# EAGLE library part X__ISP_STECKER_KLEIN (library ++Bedrahtet)
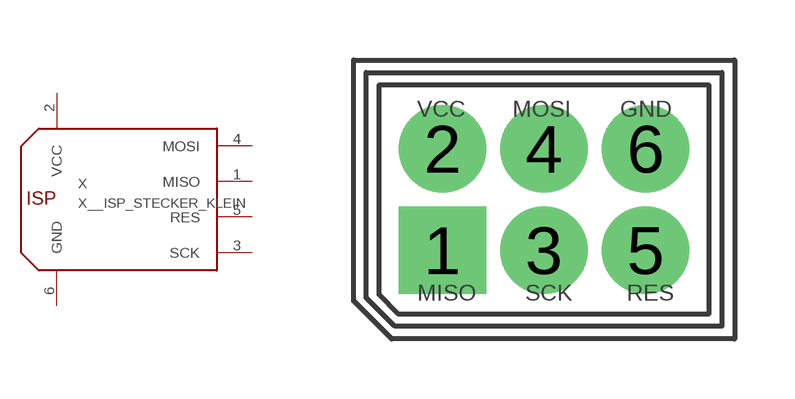
[diagram p11: symbol with the pads of ISPSTECKERKLEIN; footprint ISPSTECKERKLEIN]

Designator prefix X

## X__ISP_STECKER_KLEIN  [ISPSTECKERKLEIN]
1  MISO
2  VCC  pwr
3  SCK
4  MOSI
5  RES
6  GND  pwr

## Footprint ISPSTECKERKLEIN (pad centres in mm)
drill 1 pad 2.184 square: 1 0,0
drill 1 pad 2.184: 2 0,2.54; 3 2.54,0; 4 2.54,2.54; 5 5.08,0; 6 5.08,2.54